# Altium footprint library LED_driver.PcbLib: 5 footprints
Each footprint in its own frame and in the unit in brackets; x right, y up, seen from the top. Pads: shape width x height; smd on the part's side, far side on the other; paste and mask are expansions set on the pad; w line width, h text height; cw(c..) or ccw(c..) is an arc to the next point about the centre after c.
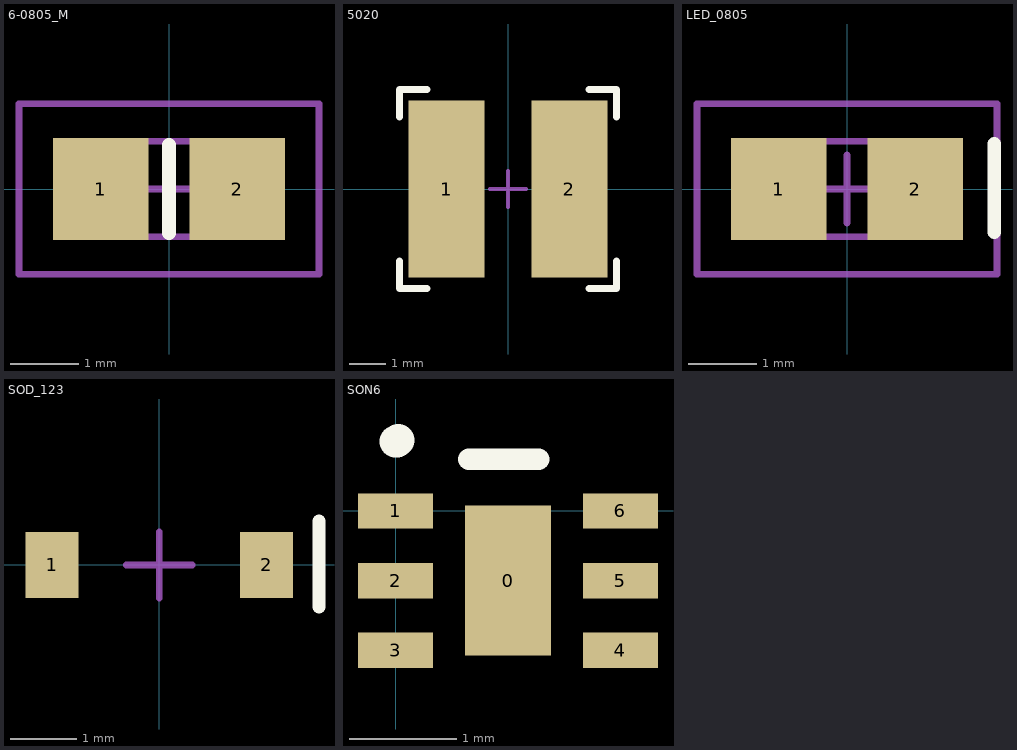
[diagram p0: the footprints below, top view; thin cyan lines are the x and y axes]

## 6-0805_M [mm] "Chip Resistor, Body 2.0x1.2mm, IPC Low Density"
height 0.7
pads (2):
  rect 1.4x1.5 smd: 1(-1,0) 2(1,0)
Top Overlay:
  lines w0.2: 0,-0.65 0,0.65
Mechanical 13:
  lines w0.1: -1.075,-0.7 1.075,-0.7 1.075,0.7 -1.075,0.7 -1.075,-0.7
Mechanical 15:
  lines w0.1: -0.5,0 0.5,0 ; 0,-0.5 0,0.5 ; -2.2,-1.25 2.2,-1.25 2.2,1.25 -2.2,1.25 -2.2,-1.25
3D body: height 0.7, standoff 0, extent -1.075,-0.7 1.075,0.7

## 5020 [mm]
height 1
pads (2):
  rect 2.1x4.9 smd: 1(-1.7,0) 2(1.7,0)
Top Overlay:
  lines w0.2: -3,-2 -3,-2.75 -2.25,-2.75 ; -3,2 -3,2.75 -2.25,2.75 ; 2.25,-2.75 3,-2.75 3,-2 ; 2.25,2.75 3,2.75 3,2
Mechanical 13:
  lines w0.1: -1.075,-0.7 -1.075,0.7 ; 1.075,-0.7 1.075,0.7
Mechanical 15:
  lines w0.1: -0.5,0 0.5,0 ; 0,-0.5 0,0.5
3D body: height 1.2, standoff 0, extent -2.667,-2.286 2.667,2.286

## LED_0805 [mm]
height 0.7
pads (2):
  rect 1.4x1.5 smd: 1(-1,0) 2(1,0)
Top Overlay:
  lines w0.2: 2.159,-0.635 2.159,0.665
Mechanical 13:
  lines w0.1: -1.075,-0.7 -1.075,0.7 1.075,0.7 1.075,-0.7 -1.075,-0.7
Mechanical 15:
  lines w0.1: -0.5,0 0.5,0 ; 0,-0.5 0,0.5 ; -2.2,-1.25 -2.2,1.25 2.2,1.25 2.2,-1.25 -2.2,-1.25
3D body: height 0.7, standoff 0, extent -1.075,-0.7 1.075,0.7

## SOD_123 [mm]
height 1.2
pads (2):
  rect 0.8x1 smd: 1(-1.62,0) 2(1.62,0)
Top Overlay:
  lines w0.2: 2.413,-0.635 2.413,0.665
Mechanical 15:
  lines w0.1: -0.5,0 0.5,0 ; 0,-0.5 0,0.5
3D body: height 1.2, standoff 0, extent -1.778,-0.762 1.778,0.762

## SON6 [mm]
pads (7):
  rect 0.8x1.4 smd: 0(1.05,-0.65)
  rect 0.7x0.33 smd: 1(0,0) 2(0,-0.65) 3(0,-1.3) 4(2.1,-1.3) 5(2.1,-0.65) 6(2.1,0)
Top Overlay:
  lines w0.203: 0.686,0.483 1.336,0.483
  lines w0.3: 0,0.65 0.015,0.65 0.025,0.66